# Altium footprint library ArduinoPcbLib.PcbLib: 26 footprints (part 1 of 2)
Each footprint in its own frame and in the unit in brackets; x right, y up, seen from the top. Pads: shape width x height; smd on the part's side, far side on the other; paste and mask are expansions set on the pad; w line width, h text height; cw(c..) or ccw(c..) is an arc to the next point about the centre after c.
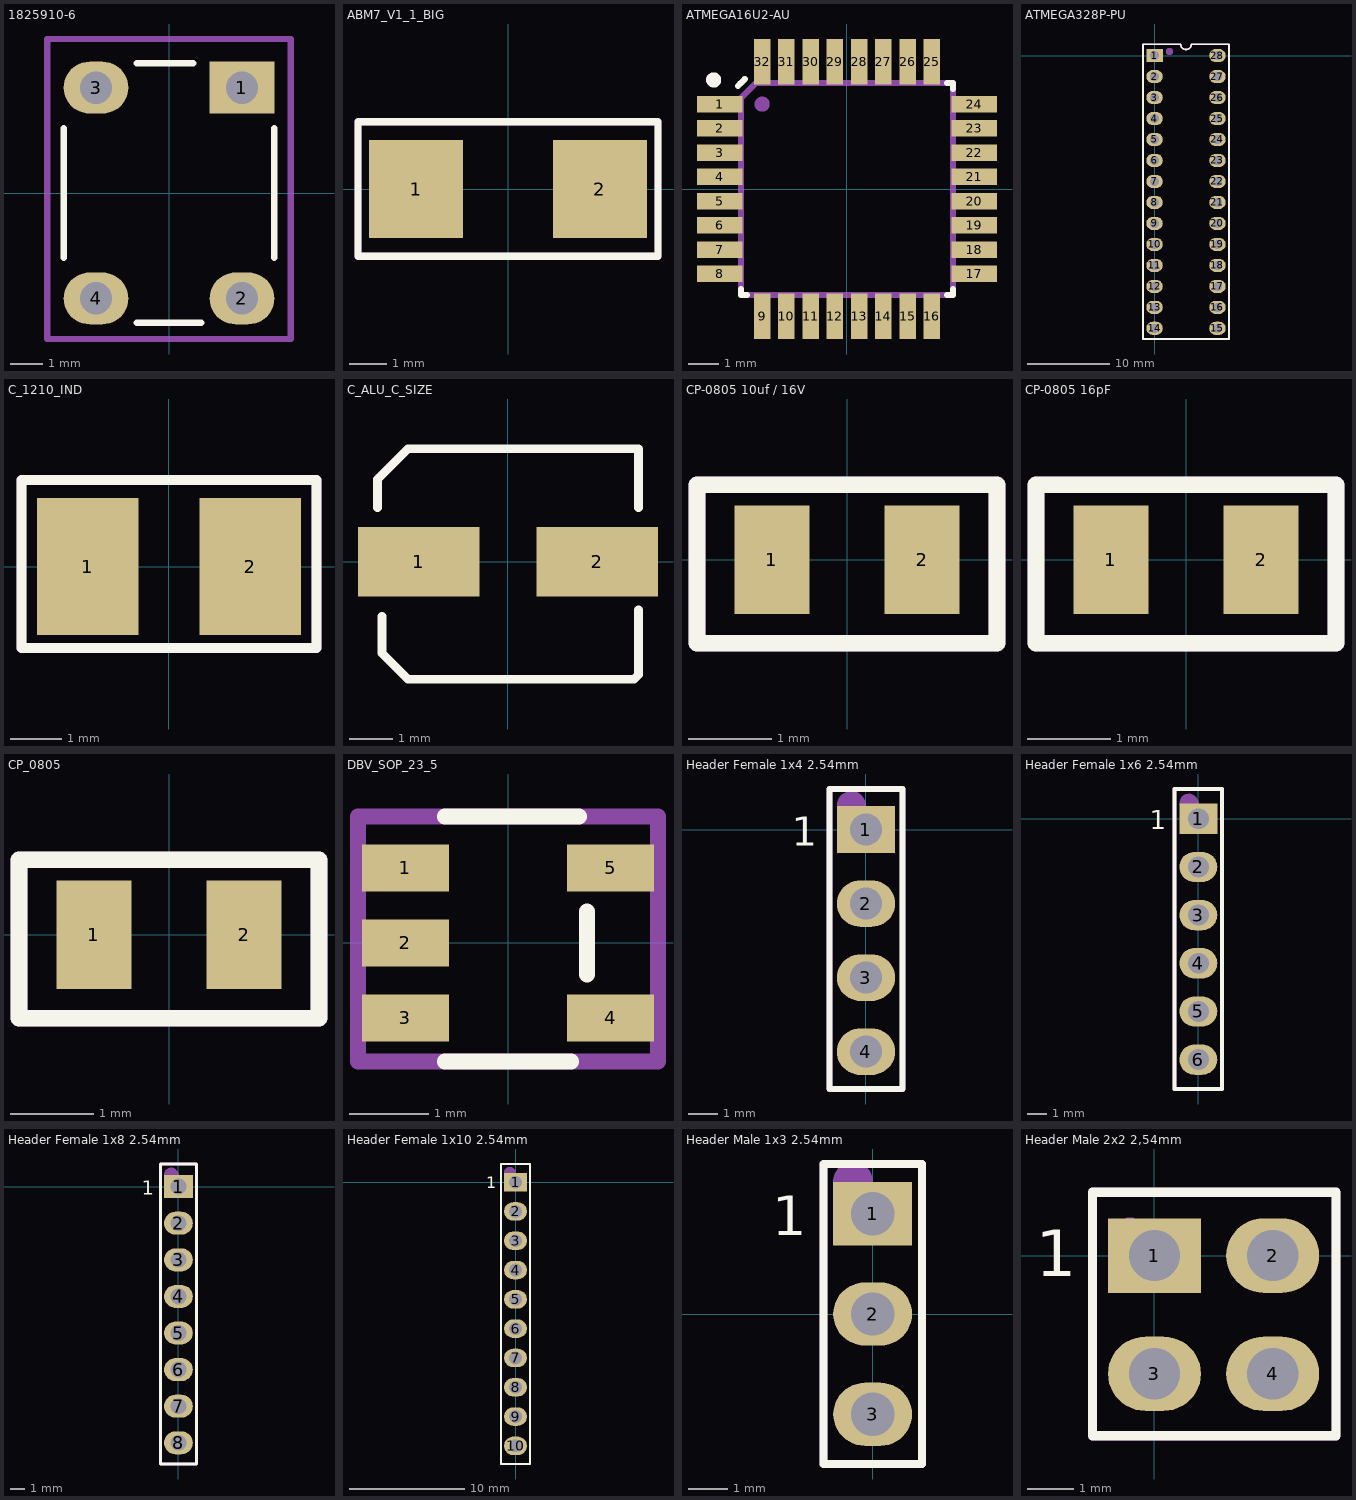
[diagram p0: the footprints below, top view; thin cyan lines are the x and y axes]

## 1825910-6 [mm]
pads (4):
  rect 2x1.6 hole 1: 1(2.25,3.25)
  oval 2x1.6 hole 1: 2(2.25,-3.25) 3(-2.25,3.25) 4(-2.25,-3.25)
Top Overlay:
  lines w0.2: -3.25,-2 -3.25,2 ; -1,-4 1,-4 ; -1,4 0.75,4 ; 3.25,-2 3.25,2
Mechanical 29:
  circle w0.4: c2.285,3.372 r0.2
  lines w0.2: -3.75,-4.5 3.75,-4.5 3.75,4.75 -3.75,4.75 -3.75,-4.5
  text "'.Designator'" at -2.746,-0.738 h1.52
3D body "User Library-FSM4JLH(1825910-5).step": height 5.01, standoff -3.5, extent -2.995,-3.899 2.995,3.9

## ABM7_V1_1_BIG [mm]
pads (2):
  rect 2.5x2.6 smd: 1(-2.45,0) 2(2.45,0)
Top Overlay:
  lines w0.2: -4,-1.8 4,-1.8 4,1.8 -4,1.8 -4,-1.8
Mechanical 29:
  lines w0.2: -4,-1.8 4,-1.8 4,1.8 -4,1.8 -4,-1.8
  text "'.Designator'" at -2.846,-0.738 h1.52
3D body "User Library-ABM7.step": height 1.45, standoff 0.01, extent -3.05,-1.75 3.05,1.75

## ATMEGA16U2-AU [mm]
pads (32):
  rect 1.5x0.55 smd mask+0.06: 1(-4.2,2.8) 2(-4.2,2) 3(-4.2,1.2) 4(-4.2,0.4) 5(-4.2,-0.4) 6(-4.2,-1.2) 7(-4.2,-2) 8(-4.2,-2.8) 17(4.2,-2.8) 18(4.2,-2) 19(4.2,-1.2) 20(4.2,-0.4) 21(4.2,0.4) 22(4.2,1.2) 23(4.2,2) 24(4.2,2.8)
  rect 0.55x1.5 smd mask+0.06: 9(-2.8,-4.2) 10(-2,-4.2) 11(-1.2,-4.2) 12(-0.4,-4.2) 13(0.4,-4.2) 14(1.2,-4.2) 15(2,-4.2) 16(2.8,-4.2) 25(2.8,4.2) 26(2,4.2) 27(1.2,4.2) 28(0.4,4.2) 29(-0.4,4.2) 30(-1.2,4.2) 31(-2,4.2) 32(-2.8,4.2)
Top Overlay:
  circle w0.3: c-4.4,3.6 r0.1
  lines w0.2: -3.6,3.4 -3.525,3.475 -3.375,3.625 ; -3.5,-3.3 -3.5,-3.5 -3.3,-3.5 ; 3.3,-3.5 3.5,-3.5 3.5,-3.3 ; 3.3,3.5 3.5,3.5 3.5,3.3
Mechanical 29:
  circle w0.3: c-2.8,2.8 r0.1
  lines w0.2: -3.5,-3.5 -3.5,-3.3 -3.5,3 -3,3.5 3.3,3.5 3.5,3.5 3.5,3.3 3.5,-3.3 3.5,-3.5 3.3,-3.5 -3.3,-3.5 -3.5,-3.5
  text "'.Designator'" at -2.846,-0.738 h1.52
3D body "User Library-TQFP32-1.step": height 1.04, standoff -0.06, extent -4.509,-4.509 4.509,4.509

## ATMEGA328P-PU [mm]
pads (28):
  rect 2x1.6 hole 1.1: 1(0,0)
  oval 2x1.6 hole 1.1: 2(0,-2.54) 3(0,-5.08) 4(0,-7.62) 5(0,-10.16) 6(0,-12.7) 7(0,-15.24) 8(0,-17.78) 9(0,-20.32) 10(0,-22.86) 11(0,-25.4) 12(0,-27.94) 13(0,-30.48) 14(0,-33.02) 15(7.62,-33.02) 16(7.62,-30.48) 17(7.62,-27.94) 18(7.62,-25.4) 19(7.62,-22.86) 20(7.62,-20.32) 21(7.62,-17.78) 22(7.62,-15.24) 23(7.62,-12.7) 24(7.62,-10.16) 25(7.62,-7.62) 26(7.62,-5.08) 27(7.62,-2.54) 28(7.62,0)
Top Overlay:
  lines w0.2: -1.39,1.27 -1.39,-34.31 9.01,-34.31 9.01,1.27 ; -1.39,1.37 3.175,1.37 ccw(c3.81,1.37) 4.445,1.37 9.01,1.37
Mechanical 29:
  circle w0.5: c1.81,0.49 r0.2
  lines w0.2: -1.39,1.27 -1.39,-34.31 9.01,-34.31 9.01,1.27 ; -1.39,1.37 3.175,1.37 ccw(c3.81,1.37) 4.445,1.37 9.01,1.37
  text "'.Designator'" at 4.667,-22 h2.5
3D body "User Library-DIP-28P-M04.STEP": height 5, standoff -3.2, extent -0.06,-34.21 7.81,1.19

## C_1210_IND [mm]
pads (2):
  rect 2x2.7 smd: 1(-1.6,0) 2(1.6,0)
Top Overlay:
  lines w0.2: -2.9,-1.6 2.9,-1.6 2.9,1.7 -2.9,1.7 -2.9,-1.6
Mechanical 29:
  lines w0.2: -2.9,-1.6 2.9,-1.6 2.9,1.7 -2.9,1.7 -2.9,-1.6
  text "'.Designator'" at -2.5,-0.733 h1.4
3D body: height 2.7, standoff 0, extent 1.3,-1.2 1.6,1.2
3D body: height 2.67, standoff 0.03, extent -1.25,-1.2 1.3,1.2
3D body: height 2.7, standoff 0, extent -1.55,-1.2 -1.25,1.2

## C_ALU_C_SIZE [mm]
pads (2):
  rect 2.8x1.6 smd: 1(-2.05,0) 2(2.05,0)
Top Overlay:
  lines w0.2: -3,1.25 -3,1.9 -2.5,2.4 -2.3,2.6 3,2.6 3,1.25 ; -2.9,-1.25 -2.9,-2.1 -2.3,-2.7 2.8,-2.7 2.9,-2.7 3,-2.6 3,-1.1
3D body "User Library-capacitor size C.step": height 5.42, standoff 0.01, extent -2.95,-2.65 2.95,2.65

## CP-0805 10uf / 16V [mm]
pads (2):
  rect 0.9x1.3 smd: 1(-0.9,0) 2(0.9,0)
Top Overlay:
  lines w0.2: -1.8,-1 -1.8,0.9 1.8,0.9 1.8,-1 -1.8,-1
Mechanical 29:
  lines w0.2: -1.8,-1 -1.8,0.9 1.8,0.9 1.8,-1 -1.8,-1
  text "'.Designator'" at -1.1,-0.3 h0.6
3D body "CAPC2012X145N EIA 0805.step": height 1.46, standoff 0.01, extent -1,-0.6 1,0.6

## CP-0805 16pF [mm]
pads (2):
  rect 0.9x1.3 smd: 1(-0.9,0) 2(0.9,0)
Top Overlay:
  lines w0.2: -1.8,-1 1.8,-1 1.8,0.9 -1.8,0.9 -1.8,-1
Mechanical 29:
  lines w0.2: -1.8,-1 1.8,-1 1.8,0.9 -1.8,0.9 -1.8,-1
  text "'.Designator'" at -1.1,-0.3 h0.6
3D body "CAPC2012X95N EIA 0805.step": height 0.96, standoff 0.01, extent -1,-0.6 1,0.6

## CP_0805 [mm]
pads (2):
  rect 0.9x1.3 smd: 1(-0.9,0) 2(0.9,0)
Top Overlay:
  lines w0.2: -1.8,-1 1.8,-1 1.8,0.9 -1.8,0.9 -1.8,-1
Mechanical 29:
  lines w0.2: -1.8,-1 1.8,-1 1.8,0.9 -1.8,0.9 -1.8,-1
  text "'.Designator'" at -1.1,-0.3 h0.6
3D body "CAPC2012X95N EIA 0805.step": height 0.96, standoff 0.01, extent -1,-0.6 1,0.6

## DBV_SOP_23_5 [mm]
pads (5):
  rect 1.1x0.6 smd: 1(-1.3,0.95) 2(-1.3,0) 3(-1.3,-0.95) 4(1.3,-0.95) 5(1.3,0.95)
Top Overlay:
  lines w0.2: -0.8,-1.5 0.8,-1.5 ; -0.8,1.6 0.9,1.6 ; 1,-0.4 1,0.4
Mechanical 29:
  circle w0.254: c-1.3,1 r0.1
  lines w0.2: -1.9,-1.5 1.9,-1.5 1.9,1.6 -1.9,1.6 -1.9,-1.5
  text "'.Designator'" at -2.4,-1.2 h1.2
3D body "User Library-R-PDSO-G5.step": height 1.42, standoff -0.03, extent -1.5,-1.525 1.5,1.525

## Header Female 1x4 2.54mm [mm]
pads (4):
  rect 2x1.6 hole 1.1: 1(0,0)
  oval 2x1.6 hole 1.1: 2(0,-2.54) 3(0,-5.08) 4(0,-7.62)
Top Overlay:
  lines w0.2: -1.25,-8.9 1.25,-8.9 1.25,1.39 -1.25,1.39 -1.25,-8.9
  text "1" at -2.55,-0.55 h1
Mechanical 29:
  circle w0.5: c-0.5,0.82 r0.25
  lines w0.2: -1.25,-8.9 1.25,-8.9 1.25,1.39 -1.25,1.39 -1.25,-8.9
  text "'.Designator'" at 0.738,-6.556 h1.52
3D body "User Library-HDR1x4.step": height 8.39, standoff -3.8, extent -1.27,-8.89 1.27,1.27

## Header Female 1x6 2.54mm [mm]
pads (6):
  rect 2x1.6 hole 1.1: 1(0,0)
  oval 2x1.6 hole 1.1: 2(0,-2.54) 3(0,-5.08) 4(0,-7.62) 5(0,-10.16) 6(0,-12.7)
Top Overlay:
  lines w0.2: -1.25,-14.25 1.25,-14.25 1.25,1.57 -1.25,1.57 -1.25,-11.43 -1.25,-14.25
  text "1" at -2.55,-0.55 h1
Mechanical 29:
  circle w0.5: c-0.5,0.82 r0.25
  lines w0.2: -1.25,-14.25 1.25,-14.25 1.25,1.57 -1.25,1.57 -1.25,-11.43 -1.25,-14.25
  text "'.Designator'" at 0.738,-9.096 h1.52
3D body "m20-7820646_asm.stp": height 8.51, standoff -2.99, extent -1.25,-14.17 1.25,1.47

## Header Female 1x8 2.54mm [mm]
pads (8):
  rect 2x1.6 hole 1.1: 1(0,0)
  oval 2x1.6 hole 1.1: 2(0,-2.54) 3(0,-5.08) 4(0,-7.62) 5(0,-10.16) 6(0,-12.7) 7(0,-15.24) 8(0,-17.78)
Top Overlay:
  lines w0.2: -1.25,-19.25 -1.25,-11.43 -1.25,1.57 1.25,1.57 1.25,-19.25 -1.25,-19.25
  text "1" at -2.55,-0.55 h1
Mechanical 29:
  circle w0.5: c-0.5,0.82 r0.25
  lines w0.2: -1.25,-19.25 -1.25,-11.43 -1.25,1.57 1.25,1.57 1.25,-19.25 -1.25,-19.25
  text "'.Designator'" at 0.738,-11.636 h1.52
3D body "m20-7820842_asm.stp": height 8.51, standoff -2.99, extent -1.25,-19.25 1.25,1.47

## Header Female 1x10 2.54mm [mm]
pads (10):
  rect 2x1.6 hole 1.1: 1(0,0)
  oval 2x1.6 hole 1.1: 2(0,-2.54) 3(0,-5.08) 4(0,-7.62) 5(0,-10.16) 6(0,-12.7) 7(0,-15.24) 8(0,-17.78) 9(0,-20.32) 10(0,-22.86)
Top Overlay:
  lines w0.2: -1.25,-24.43 -1.25,-11.43 -1.25,1.57 1.25,1.57 1.25,-24.43 -1.25,-24.43
  text "1" at -2.55,-0.55 h1
Mechanical 29:
  circle w0.5: c-0.5,0.82 r0.25
  lines w0.2: -1.25,-24.43 -1.25,-11.43 -1.25,1.57 1.25,1.57 1.25,-24.43 -1.25,-24.43
  text "'.Designator'" at 0.738,-14.246 h1.52
3D body "m20-7821046_asm.stp": height 8.51, standoff -2.99, extent -1.25,-24.33 1.25,1.47

## Header Male 1x3 2.54mm [mm]
pads (3):
  rect 2x1.6 hole 1.1: 1(0,2.54)
  oval 2x1.6 hole 1.1: 2(0,0) 3(0,-2.54)
Top Overlay:
  lines w0.2: -1.25,-3.8 -1.25,3.8 1.25,3.8 1.25,-3.8 -1.25,-3.8
  text "1" at -2.55,1.99 h1
Mechanical 29:
  circle w0.5: c-0.5,3.36 r0.25
  lines w0.2: -1.25,-3.8 -1.25,3.8 1.25,3.8 1.25,-3.8 -1.25,-3.8
  text "'.Designator'" at 0.679,-2.546 h1.4
3D body "User Library-HDR1x3.step": height 8.39, standoff -3.8, extent -1.27,-3.81 1.27,3.81

## Header Male 2x2 2,54mm [mm]
pads (4):
  rect 2x1.6 hole 1.1: 1(0,0)
  oval 2x1.6 hole 1.1: 2(2.54,0) 3(0,-2.54) 4(2.54,-2.54)
Top Overlay:
  lines w0.2: -1.33,-3.87 3.9,-3.87 3.9,1.36 -1.33,1.36 -1.33,-3.87
  text "1" at -2.546,-0.446 h1
Mechanical 29:
  circle w0.3: c-0.53,0.56 r0.112
  lines w0.2: -1.33,-3.87 3.9,-3.87 3.9,1.36 -1.33,1.36 -1.33,-3.87
  text "'.Designator'" at -1.476,-3.178 h1.52
3D body "961204-6404-XX.stp": height 8.01, standoff -3.29, extent -1.23,-3.77 3.85,1.23